# EAGLE library part HDR-2X6H (library RS-extra-cons)
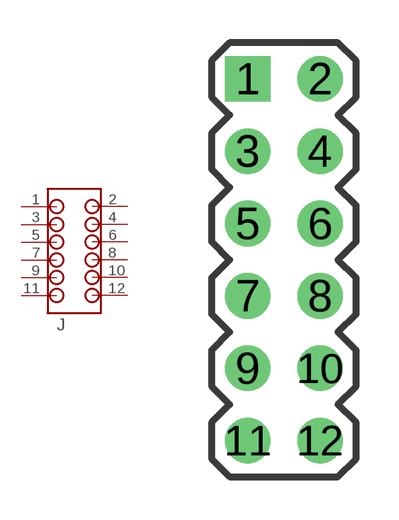
[diagram p11: symbol with the pads of HDR-2X6; footprint HDR-2X6]

Designator prefix J

## HDR-2X6H  [HDR-2X6]
1  1
2  2
3  3
4  4
5  5
6  6
7  7
8  8
9  9
10  10
11  11
12  12

## Footprint HDR-2X6 (pad centres in mm)
drill 1.067 square: 1 -1.27,6.35
drill 1.067: 2 1.27,6.35; 3 -1.27,3.81; 4 1.27,3.81; 5 -1.27,1.27; 6 1.27,1.27; 7 -1.27,-1.27; 8 1.27,-1.27; 9 -1.27,-3.81; 10 1.27,-3.81; 11 -1.27,-6.35; 12 1.27,-6.35